# Altium schematic symbol library Transistor_BJT_NPN.SchLib: 2 symbols
Pins are listed as number, name and electrical type; pins without a type are passive.

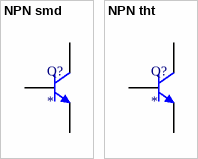
[diagram p0: symbols NPN smd to NPN tht]

## NPN smd
designator Q?
Transistor BJT NPN; ComponentLink1Description: BSV52 datasheet; ComponentLink1URL: https://www.mouser.es/datasheet/2/916/BSV52-1598576.pdf
footprint SOT-23-3
pins: 1 B, 2 E, 3 C

## NPN tht
designator Q?
Transistor BJT NPN; ComponentLink1Description: BSV52 datasheet; ComponentLink1URL: https://www.mouser.es/datasheet/2/916/BSV52-1598576.pdf
footprint TO-237
pins: 1 C, 2 B, 3 E